# Altium schematic symbol library 3296W-1-203RLF.SchLib: 1 symbol
Pins are listed as number, name and electrical type; pins without a type are passive.

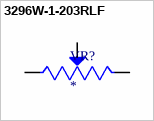
[diagram p0: symbol 3296W-1-203RLF]

## 3296W-1-203RLF
designator VR?
20 kOhms 0.5W, 1/2W PC Pins Through Hole Trimmer Potentiometer Cermet 25.0 Turn Top Adjustment; MF: Bourns; MP: 3296W-1-203RLF; SnapEDA_Link: https://www.snapeda.com/parts/3296W-1-203RLF/Bourns/view-part/?ref=snap; Check_prices: https://www.snapeda.com/parts/3296W-1-203RLF/Bourns/view-part/?ref=eda; Price: None; Purchase-URL: https://pricing.snapeda.com/search/part/3296W-1-203RLF/?ref=eda; Availability: In Stock; Value: *; Package: SOT-23-5 Bourns
footprint TRIM_3296W-1-203RLF
pins: 1 CCW, 2 WIPER, 3 CW